# Altium schematic symbol library TJA1057GTK_3Z.SchLib: 1 symbol
Pins are listed as number, name and electrical type; pins without a type are passive.

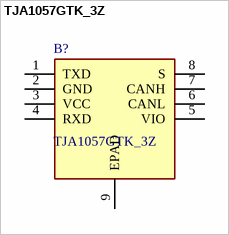
[diagram p0: symbol TJA1057GTK_3Z]

## TJA1057GTK_3Z
designator B?
CAN Interface IC High-speed CAN transceiver; Manufacturer_Name: NXP; Manufacturer_Part_Number: TJA1057GTK/3Z; Geometry.Height: 1mm; Mouser Part Number: 771-TJA1057GTK/3Z; Mouser Price/Stock: https://www.mouser.co.uk/ProductDetail/NXP-Semiconductors/TJA1057GTK-3Z?qs=gH1BdSMZm8XBUj89vken9w%3D%3D; Arrow Part Number: TJA1057GTK/3Z; Arrow Price/Stock: https://www.arrow.com/en/products/tja1057gtk3z/nxp-semiconductors?region=nac; Datasheet Link: http://www.nxp.com/docs/en/data-sheet/TJA1057.pdf
footprint SON65P300X300X100-9N-D
pins: 1 TXD, 2 GND, 3 VCC, 4 RXD, 5 VIO, 6 CANL, 7 CANH, 8 S, 9 EPAD